# Altium footprint library CONNECTORS_THR.PcbLib: 2 footprints
Each footprint in its own frame and in the unit in brackets; x right, y up, seen from the top. Pads: shape width x height; smd on the part's side, far side on the other; paste and mask are expansions set on the pad; w line width, h text height; cw(c..) or ccw(c..) is an arc to the next point about the centre after c.
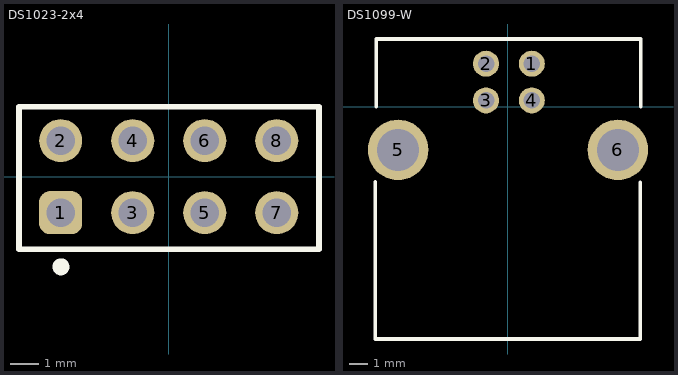
[diagram p0: the footprints below, top view; thin cyan lines are the x and y axes]

## DS1023-2x4 [mm] "Разъем PBD на плату 8конт."
pads (8):
  rrect50% 1.52x1.52 hole 1 mask+0.075: 1(-3.81,-1.27)
  round 1.52 hole 1 mask+0.075: 2(-3.81,1.27) 3(-1.27,-1.27) 4(-1.27,1.27) 5(1.27,-1.27) 6(1.27,1.27) 7(3.81,-1.27) 8(3.81,1.27)
Top Overlay:
  circle w0.3: c-3.8,-3.18 r0.15
  lines w0.2: -5.28,-2.56 5.3,-2.56 5.3,2.46 -5.28,2.46 -5.28,-2.52
3D body "User Library-PBD_(DS1023-2)_2line_connectors_h=5_0_8_5mm_step_2_54mm_fixed.step": height 5.02, standoff -3.28, extent -5.33,-2.56 5.33,2.44

## DS1099-W [mm]
height 10.25
pads (6):
  round 1.42 hole 0.9 paste+0 mask+0.075: 1(1.3,2.35) 2(-1.2,2.35) 3(-1.2,0.35) 4(1.3,0.35)
  round 3.3 hole 2.3 paste+0 mask+0.075: 5(-6,-2.35) 6(6,-2.35)
Top Overlay:
  lines w0.2: -7.25,-4.1 -7.25,-12.675 7.225,-12.675 7.225,-4.125 ; -7.2,0 -7.2,3.7 7.25,3.7 7.25,0
3D body "USB-B-S-F-B-TH.stp": height 10.8, standoff -3.64, extent -7.25,-12.7 7.25,3.8